# Altium schematic symbol library pin5header.SchLib: 1 symbol
Pins are listed as number, name and electrical type; pins without a type are passive.

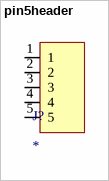
[diagram p0: symbol pin5header]

## pin5header
designator J?  (graphical)
footprint pin5header
pins: 1, 2, 3, 4, 5 (oc)